# Altium schematic symbol library Schlib1.SchLib: 1 symbol
Pins are listed as number, name and electrical type; pins without a type are passive.

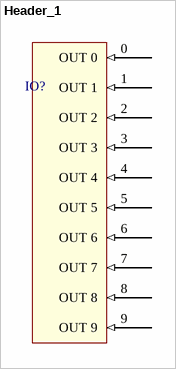
[diagram p0: symbol Header_1]

## Header_1
designator IO?
Output holes for pcb
footprint Header_1
pins: 0 OUT 0 (in), 1 OUT 1 (in), 2 OUT 2 (in), 3 OUT 3 (in), 4 OUT 4 (in), 5 OUT 5 (in), 6 OUT 6 (in), 7 OUT 7 (in), 8 OUT 8 (in), 9 OUT 9 (in)